# Altium footprint library Transformer.PcbLib: 5 footprints
Each footprint in its own frame and in the unit in brackets; x right, y up, seen from the top. Pads: shape width x height; smd on the part's side, far side on the other; paste and mask are expansions set on the pad; w line width, h text height; cw(c..) or ccw(c..) is an arc to the next point about the centre after c.
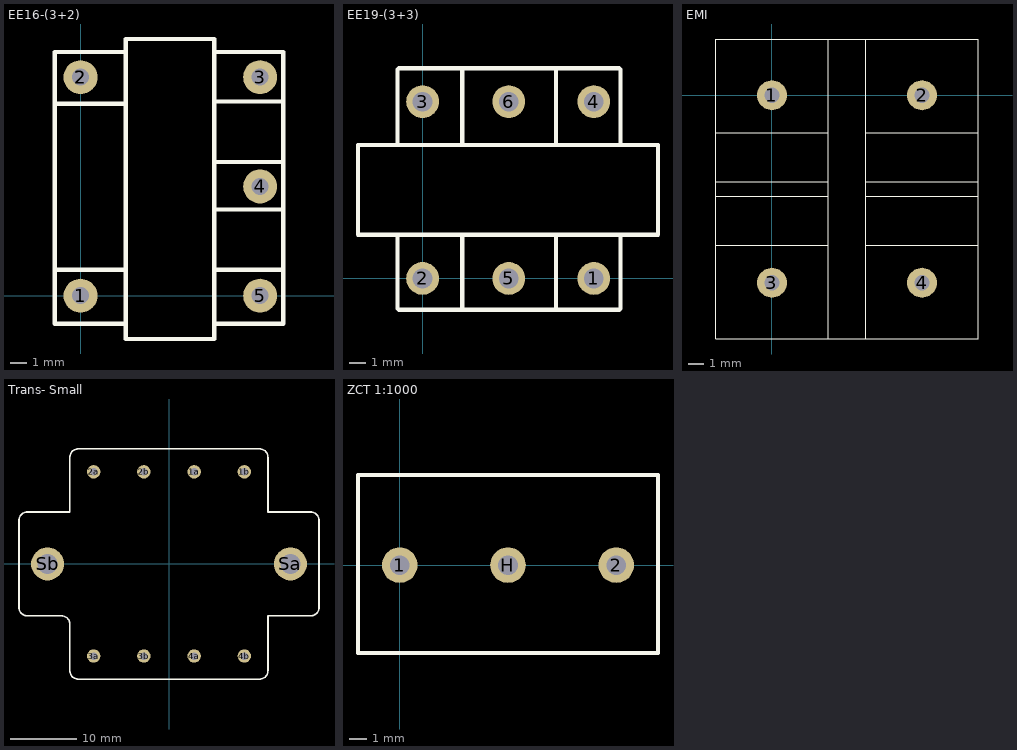
[diagram p0: the footprints below, top view; thin cyan lines are the x and y axes]

## EE16-(3+2) [mm] "EE166"
pads (6):
  round 2 hole 1: 1(0,0) 2(0,12.865) 3(10.572,12.865) 4(10.572,6.432) 5(10.572,0)
  round 1.524 hole 0.762: 2(0,12.865)
Top Overlay:
  lines w0.254: -1.524,1.524 2.667,1.524 ; -1.524,11.303 2.667,11.303 ; 2.667,-1.651 -1.524,-1.651 -1.524,14.351 2.667,14.351 ; 7.874,-2.549 2.667,-2.549 2.667,15.113 7.874,15.113 7.874,-2.54 ; 7.874,-1.651 11.938,-1.651 11.938,14.351 7.874,14.351 ; 7.874,1.524 11.938,1.524 ; 7.874,5.08 11.938,5.08 ; 7.874,7.874 11.938,7.874 ; 7.874,11.43 11.938,11.43

## EE19-(3+3) [mm]
pads (6):
  round 2 hole 1.2: 1(10.44,0) 2(0,0) 3(0,10.78) 4(10.44,10.78) 5(5.255,0) 6(5.255,10.78)
Top Overlay:
  lines w0.254: -1.524,2.667 -1.524,-1.825 -1.444,-1.905 11.986,-1.905 12.065,-1.826 12.065,2.667 ; -1.524,8.128 -1.524,12.73 -1.442,12.812 11.983,12.812 12.065,12.73 12.065,8.128 ; 2.413,-1.849 2.413,2.637 ; 2.413,8.158 2.413,12.644 ; 8.128,-1.905 8.128,2.637 ; 8.128,8.158 8.128,12.812 ; -3.937,2.667 -1.379,2.667 12.047,2.667 14.351,2.667 14.351,8.128 12.047,8.128 -1.379,8.128 -3.937,8.128 -3.937,2.667
3D body "User Library-EE19(4+3).STEP": height 19, standoff -3, extent -4.293,-2.665 14.707,13.335
3D body: height 1, standoff -277, extent 3.302,5.08 3.302,5.08

## EMI [mm] "EMI"
pads (4):
  round 2 hole 1: 1(0,0) 2(10,0) 3(0,-12.5) 4(10,-12.5)
Top Overlay:
  lines w0.05: 3.75,-16.25 3.75,3.75 ; 3.75,-10 -3.75,-10 -3.75,-6.75 3.75,-6.75 3.75,-5.75 -3.75,-5.75 -3.75,-2.5 3.75,-2.5 ; 6.25,-16.25 6.25,3.75 ; 6.25,-10 13.75,-10 ; 6.25,-6.75 13.75,-6.75 ; 6.25,-5.75 13.75,-5.75 ; 6.25,-2.5 13.75,-2.5 ; -3.75,-16.25 -3.75,3.75 13.75,3.75 13.75,2.5 13.75,0 13.75,-16.25 -3.75,-16.25
3D body "User Library-HIGH FREQUENCY EMI FILTER.STEP": height 17.82, standoff -4.3, extent -2.97,-14.596 13.13,2.404

## Trans- Small [mil]
pads (10):
  round 80 hole 45: 1a(150,550) 1b(450,550) 2a(-450,550) 2b(-150,550) 3a(-450,-550) 3b(-150,-550) 4a(150,-550) 4b(450,-550)
  round 196.85 hole 118.11: Sa(725,0) Sb(-725,0)
Top Overlay:
  lines w10: -895.67,-260 ccw(c-845.67,-260) -845.67,-310 -642,-310 cw(c-642,-360) -592,-360 -592,-638 ccw(c-542,-638) -542,-688 541,-688 ccw(c541,-638) 591,-638 591,-310 845.67,-310 ccw(c845.67,-260) 895.67,-260 895.67,260 ccw(c845.67,260) 845.67,310 591,310 591,637 ccw(c541,637) 541,687 -542,687 ccw(c-542,637) -592,637 -592,310 -845.67,310 ccw(c-845.67,260) -895.67,260 -895.67,-260
3D body "trans9V-small.STEP": height 1051.18, standoff 11.81, extent -895.67,-482.28 895.67,482.28
3D body "1790319.stp": height 546.82, standoff -122.47, extent 91,417.13 591,688
3D body "1790319.stp": height 546.82, standoff -122.47, extent -509,416.13 -9,687
3D body "1790319.stp": height 546.82, standoff -122.47, extent -592,-688 -92,-417.13
3D body "1790319.stp": height 546.82, standoff -122.47, extent 8,-688 508,-417.13

## ZCT 1:1000 [mm]
pads (3):
  round 2 hole 1.1: 1(0,0) 2(12.2,0) H(6.1,0)
Top Overlay:
  lines w0.203: -2.35,-4.953 14.55,-4.953 14.55,5.08 -2.35,5.08 -2.35,-4.953
3D body: height 1, standoff -277, extent 3.302,5.08 3.302,5.08